# Altium integrated library Actel RTAX-S-SL.IntLib: 132 symbols (part 23 of 41)
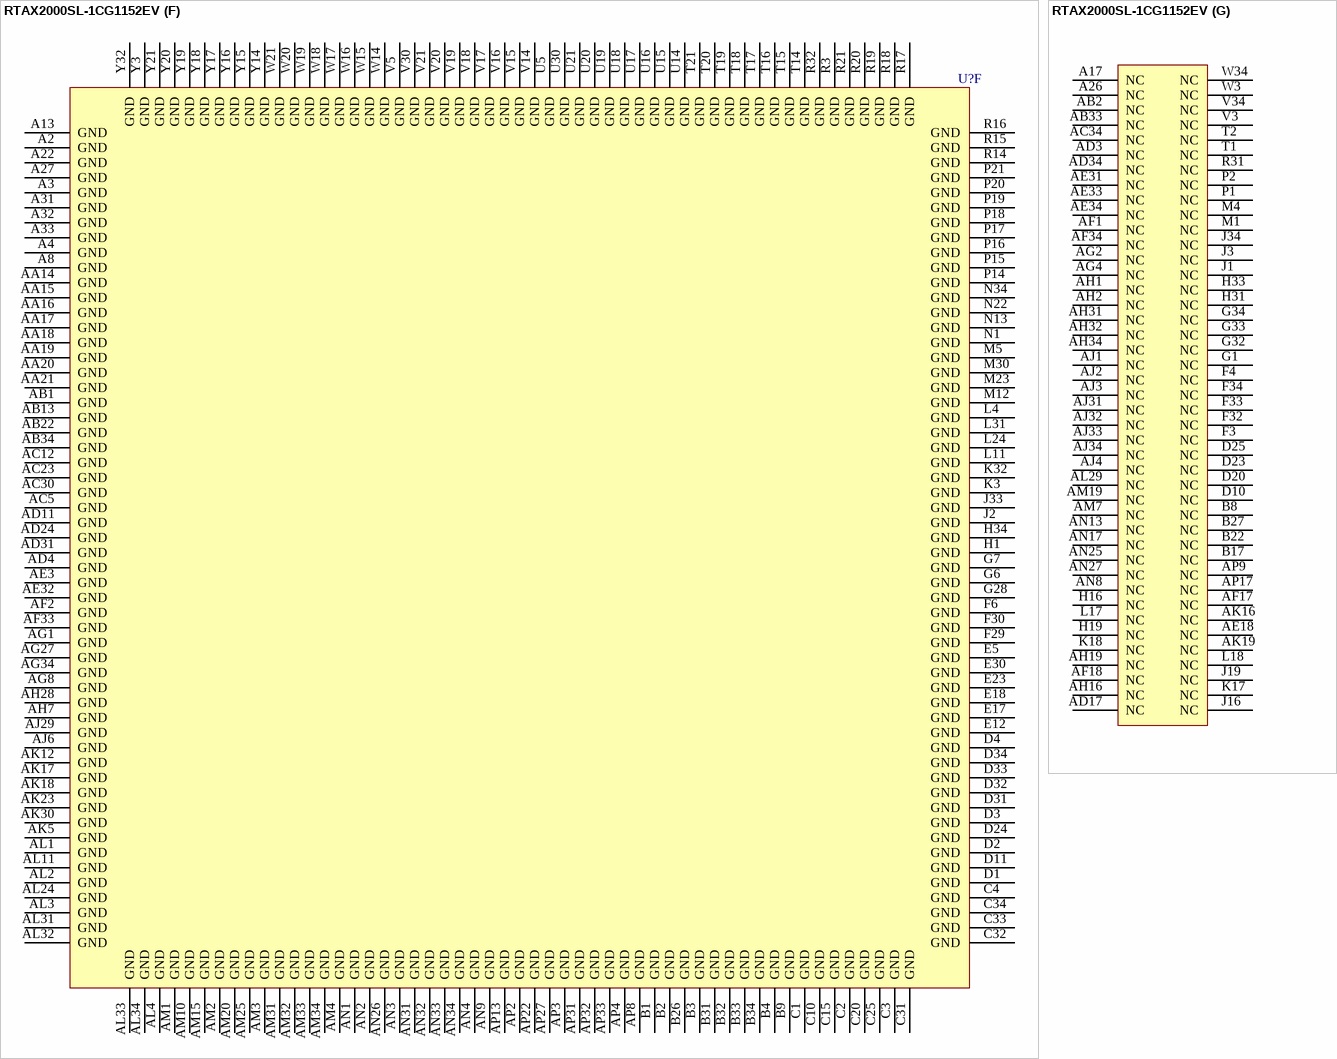
[diagram p401: symbol RTAX2000SL-1CG1152EV]

## RTAX2000SL-1CG1152EV
designator U?
RTAX-SL RadTolerant FPGA, 2 Million Equivalent System Gates, Low-Power, 1152-Pin CCGA, Speed Grade 1, Class V; Published: 11-Dec-2009; DatasheetVersion: v5.4, May-2009; PackageVersion: ver11.2, Nov-2009; PackageReference: CG1152; Publisher: Altium Limited; PackageDescription: 1152-Pin Ceramic Column Grid Array 1 mm Pitch; ComponentLink1Description: RTAX-S/SL RadTolerant Datasheet; ComponentLink1URL: http://www.actel.com/documents/RTAXS_DS.pdf; ComponentLink2Description: Package Mechanical Drawings; ComponentLink2URL: http://www.actel.com/documents/PckgMechDrwngs.pdf; ComponentLink3Description: RTAX-S/SL RadTolerant Documents; ComponentLink3URL: http://www.actel.com/products/milaero/rtaxs/docs.aspx; ComponentLink4Description: Actel.com Home; ComponentLink4URL: http://www.actel.com/
footprint CG1152 (CGA, 1152-Leads, Body 35x35 mm, Pitch 1mm)
part A pins: A6 IO03NB0F0 (io), A7 IO14NB0F1 (io), A9 IO20PB0F1 (io), A10 IO20NB0F1 (io), A11 IO24PB0F2 (io), A12 IO24NB0F2 (io), A14 IO32NB0F2 (io), A15 IO35NB0F3 (io), A16 IO36PB0F3 (io), A18 IO46NB1F4 (io), A19 IO50NB1F4 (io), A20 IO52PB1F4 (io), A21 IO54PB1F5 (io), A23 IO60PB1F5 (io), A24 IO64PB1F6 (io), A25 IO66PB1F6 (io), A28 IO72PB1F6 (io), A29 IO77PB1F7 (io), B6 IO03PB0F0 (io), B7 IO14PB0F1 (io), B10 IO22PB0F2 (io), B11 IO22NB0F2 (io), B12 IO29PB0F2 (io), B13 IO29NB0F2 (io), B14 IO32PB0F2 (io), B15 IO35PB0F3 (io), B16 IO36NB0F3 (io), B18 IO46PB1F4 (io), B19 IO50PB1F4 (io), B20 IO52NB1F4 (io), B21 IO54NB1F5 (io), B23 IO60NB1F5 (io), B24 IO64NB1F6 (io), B25 IO66NB1F6 (io), B28 IO72NB1F6 (io), B29 IO77NB1F7 (io), C6 IO00PB0F0 (io), C7 IO04NB0F0 (io), C8 IO10NB0F0 (io), C9 IO16NB0F1 (io), C11 IO23PB0F2 (io), C12 IO23NB0F2 (io), C13 IO30PB0F2 (io), C14 IO30NB0F2 (io), C16 IO38PB0F3 (io), C17 IO40PB0F3 (io), C18 IO45NB1F4 (io), C19 IO48NB1F4 (io), C21 IO56PB1F5 (io), C22 IO59PB1F5 (io), C23 IO62PB1F5 (io), C24 IO62NB1F5 (io), C26 IO69PB1F6 (io), C27 IO69NB1F6 (io), C28 IO78PB1F7 (io), C29 IO82PB1F7 (io), D6 IO00NB0F0 (io), D7 IO04PB0F0 (io), D8 IO10PB0F0 (io), D9 IO16PB0F1 (io), D12 IO26PB0F2 (io), D13 IO26NB0F2 (io), D14 IO34PB0F3 (io), D15 IO34NB0F3 (io), D16 IO38NB0F3 (io), D17 IO40NB0F3 (io), D18 IO45PB1F4 (io), D19 IO48PB1F4 (io), D21 IO56NB1F5 (io), D22 IO59NB1F5 (io), D26 IO76PB1F7 (io), D27 IO76NB1F7 (io), D28 IO78NB1F7 (io), D29 IO82NB1F7 (io), E8 IO08PB0F0 (io), E9 IO08NB0F0 (io), E10 IO18PB0F1 (io), E11 IO18NB0F1 (io), E13 IO28PB0F2 (io), E14 IO28NB0F2 (io), E16 IO41NB0F3/HCLKAN (io), E19 IO44NB1F4/HCLKDN (io), E20 IO53PB1F4 (io), E21 IO58PB1F5 (io), E22 IO58NB1F5 (io), E24 IO68PB1F6 (io), E25 IO73PB1F6 (io), E26 IO73NB1F6 (io), E27 IO80PB1F7 (io), E28 IO84PB1F7 (io), F8 IO02NB0F0 (io), F9 IO06NB0F0 (io), F10 IO07NB0F0 (io), F11 IO17PB0F1 (io), F12 IO17NB0F1 (io), F13 IO19NB0F1 (io), F14 IO27NB0F2 (io), F16 IO41PB0F3/HCLKAP (io), F17 IO42PB0F3/HCLKBP (io), F19 IO44PB1F4/HCLKDP (io), F20 IO53NB1F4 (io), F22 IO63PB1F5 (io), F23 IO63NB1F5 (io), F24 IO68NB1F6 (io), F25 IO74PB1F6 (io), F26 IO74NB1F6 (io), F27 IO80NB1F7 (io), F28 IO84NB1F7 (io), G8 IO02PB0F0 (io), G9 IO06PB0F0 (io), G10 IO07PB0F0 (io), G11 IO12NB0F1 (io), G12 IO13NB0F1 (io), G13 IO19PB0F1 (io), G14 IO27PB0F2 (io), G15 IO37PB0F3 (io), G16 IO37NB0F3 (io), G17 IO42NB0F3/HCLKBN (io), G18 IO43PB1F4/HCLKCP (io), G19 IO43NB1F4/HCLKCN (io), G21 IO57PB1F5 (io), G22 IO57NB1F5 (io), G23 IO71PB1F6 (io), G24 IO70PB1F6 (io), G25 IO79PB1F7 (io), G26 IO83PB1F7 (io), G27 IO85PB1F7 (io), H9 IO01PB0F0 (io), H10 IO01NB0F0 (io), H11 IO12PB0F1 (io), H12 IO13PB0F1 (io), H13 IO15NB0F1 (io), H14 IO25NB0F2 (io), H15 IO31NB0F2 (io), H20 IO51NB1F4 (io), H21 IO61PB1F5 (io), H22 IO61NB1F5 (io), H23 IO71NB1F6 (io), H24 IO70NB1F6 (io), H25 IO79NB1F7 (io), H26 IO83NB1F7 (io), H27 IO85NB1F7 (io), J10 IO05PB0F0 (io), J11 IO09NB0F0 (io), J12 IO11PB0F0 (io), J13 IO15PB0F1 (io), J14 IO25PB0F2 (io), J15 IO31PB0F2 (io), J20 IO51PB1F4 (io), J21 IO55PB1F5 (io), J22 IO65NB1F6 (io), J23 IO67PB1F6 (io), J24 IO81PB1F7 (io), J25 IO81NB1F7 (io), K10 IO05NB0F0 (io), K11 IO09PB0F0 (io), K12 IO11NB0F0 (io), K13 IO21PB0F1 (io), K14 IO21NB0F1 (io), K15 IO33NB0F2 (io), K16 IO39NB0F3 (io), K19 IO47NB1F4 (io), K20 IO49NB1F4 (io), K21 IO55NB1F5 (io), K22 IO65PB1F6 (io), K23 IO67NB1F6 (io), K24 IO75PB1F6 (io), K25 IO75NB1F6 (io), L15 IO33PB0F2 (io), L16 IO39PB0F3 (io), L19 IO47PB1F4 (io), L20 IO49PB1F4 (io)
part B pins: AA25 IO153PB3F14 (io), AA26 IO145NB3F13 (io), AA27 IO149PB3F13 (io), AA28 IO143NB3F13 (io), AA29 IO146NB3F13 (io), AA30 IO146PB3F13 (io), AA31 IO142NB3F13 (io), AA32 IO148PB3F13 (io), AA33 IO140NB3F13 (io), AA34 IO144NB3F13 (io), AB25 IO153NB3F14 (io), AB26 IO157PB3F14 (io), AB27 IO149NB3F13 (io), AB28 IO152PB3F14 (io), AB29 IO147PB3F13 (io), AB30 IO147NB3F13 (io), AB31 IO150PB3F14 (io), AB32 IO148NB3F13 (io), AC25 IO170PB3F15 (io), AC26 IO157NB3F14 (io), AC27 IO159PB3F14 (io), AC28 IO152NB3F14 (io), AC29 IO155PB3F14 (io), AC31 IO150NB3F14 (io), AC32 IO154PB3F14 (io), AC33 IO151PB3F14 (io), AD25 IO170NB3F15 (io), AD26 IO165PB3F15 (io), AD27 IO159NB3F14 (io), AD28 IO163PB3F15 (io), AD29 IO155NB3F14 (io), AD30 IO156PB3F14 (io), AD32 IO154NB3F14 (io), AD33 IO151NB3F14 (io), AE26 IO165NB3F15 (io), AE27 IO168PB3F15 (io), AE28 IO163NB3F15 (io), AE29 IO162PB3F15 (io), AE30 IO156NB3F14 (io), AF27 IO168NB3F15 (io), AF28 IO167PB3F15 (io), AF29 IO162NB3F15 (io), AF30 IO164PB3F15 (io), AF31 IO161PB3F15 (io), AF32 IO160PB3F14 (io), AG28 IO167NB3F15 (io), AG29 IO169PB3F15 (io), AG30 IO164NB3F15 (io), AG31 IO161NB3F15 (io), AG32 IO160NB3F14 (io), AG33 IO158PB3F14 (io), AH29 IO169NB3F15 (io), AH30 IO166PB3F15 (io), AH33 IO158NB3F14 (io), AJ30 IO166NB3F15 (io), F31 IO89PB2F8 (io), G29 IO90PB2F8 (io), G31 IO89NB2F8 (io), H29 IO90NB2F8 (io), H30 IO92PB2F8 (io), H32 IO96PB2F9 (io), J27 IO86PB2F8 (io), J28 IO86NB2F8 (io), J29 IO94PB2F8 (io), J30 IO92NB2F8 (io), J31 IO95PB2F8 (io), J32 IO96NB2F9 (io), K26 IO88PB2F8 (io), K27 IO91PB2F8 (io), K28 IO91NB2F8 (io), K29 IO94NB2F8 (io), K30 IO98PB2F9 (io), K31 IO95NB2F8 (io), K33 IO102PB2F9 (io), K34 IO102NB2F9 (io), L25 IO87PB2F8 (io), L26 IO88NB2F8 (io), L27 IO93PB2F8 (io), L28 IO93NB2F8 (io), L29 IO100PB2F9 (io), L30 IO98NB2F9 (io), L32 IO101PB2F9 (io), L33 IO101NB2F9 (io), L34 IO104PB2F9 (io), M25 IO87NB2F8 (io), M26 IO97PB2F9 (io), M27 IO97NB2F9 (io), M28 IO103PB2F9 (io), M29 IO100NB2F9 (io), M31 IO106PB2F9 (io), M32 IO106NB2F9 (io), M33 IO108PB2F10 (io), M34 IO104NB2F9 (io), N25 IO99NB2F9 (io), N26 IO99PB2F9 (io), N27 IO105PB2F9 (io), N28 IO103NB2F9 (io), N29 IO109PB2F10 (io), N30 IO110PB2F10 (io), N31 IO112PB2F10 (io), N32 IO114PB2F10 (io), N33 IO108NB2F10 (io), P25 IO107NB2F10 (io), P26 IO107PB2F10 (io), P27 IO105NB2F9 (io), P28 IO113PB2F10 (io), P29 IO109NB2F10 (io), P30 IO110NB2F10 (io), P31 IO112NB2F10 (io), P32 IO114NB2F10 (io), P33 IO116PB2F10 (io), P34 IO116NB2F10 (io), R24 IO111NB2F10 (io), R25 IO111PB2F10 (io), R26 IO117PB2F10 (io), R27 IO117NB2F10 (io), R28 IO113NB2F10 (io), R29 IO115PB2F10 (io), R30 IO115NB2F10 (io), R33 IO118PB2F11 (io), R34 IO118NB2F11 (io), T24 IO119NB2F11 (io), T25 IO119PB2F11 (io), T26 IO121PB2F11 (io), T27 IO121NB2F11 (io), T28 IO123PB2F11 (io), T29 IO122PB2F11 (io), T30 IO122NB2F11 (io), T31 IO124NB2F11 (io), T32 IO124PB2F11 (io), T33 IO120NB2F11 (io), T34 IO120PB2F11 (io), U24 IO125NB2F11 (io), U25 IO125PB2F11 (io), U26 IO127NB2F11 (io), U27 IO127PB2F11 (io), U28 IO123NB2F11 (io), U29 IO129PB3F12 (io), U31 IO128NB2F11 (io), U32 IO128PB2F11 (io), U33 IO126NB2F11 (io), U34 IO126PB2F11 (io), V24 IO131NB3F12 (io), V25 IO131PB3F12 (io), V26 IO133PB3F12 (io), V28 IO132PB3F12 (io), V29 IO129NB3F12 (io), V31 IO130NB3F12 (io), V32 IO130PB3F12 (io), V33 IO134PB3F12 (io), W24 IO135PB3F12 (io), W25 IO135NB3F12 (io), W26 IO133NB3F12 (io), W27 IO139PB3F13 (io), W28 IO132NB3F12 (io), W29 IO138PB3F12 (io), W30 IO137PB3F12 (io), W31 IO136NB3F12 (io), W32 IO136PB3F12 (io), W33 IO134NB3F12 (io), Y24 IO141PB3F13 (io), Y25 IO141NB3F13 (io), Y26 IO145PB3F13 (io), Y27 IO139NB3F13 (io), Y28 IO143PB3F13 (io), Y29 IO138NB3F12 (io), Y30 IO137NB3F12 (io), Y31 IO142PB3F13 (io), Y33 IO140PB3F13 (io), Y34 IO144PB3F13 (io)
part C pins: AD15 IO222NB5F20 (io), AD16 IO216NB5F20 (io), AD19 IO210PB4F19 (io), AD20 IO202PB4F18 (io), AE10 IO250NB5F23 (io), AE11 IO250PB5F23 (io), AE12 IO240NB5F22 (io), AE13 IO234NB5F21 (io), AE14 IO230NB5F21 (io), AE15 IO226NB5F21 (io), AE16 IO222PB5F20 (io), AE17 IO216PB5F20 (io), AE19 IO210NB4F19 (io), AE20 IO202NB4F18 (io), AE21 IO198NB4F18 (io), AE22 IO198PB4F18 (io), AE23 IO188PB4F17 (io), AE24 IO182PB4F17 (io), AE25 IO178PB4F16 (io), AF10 IO246NB5F23 (io), AF11 IO246PB5F23 (io), AF12 IO240PB5F22 (io), AF13 IO234PB5F21 (io), AF14 IO230PB5F21 (io), AF15 IO226PB5F21 (io), AF16 IO218PB5F20 (io), AF19 IO208PB4F19 (io), AF20 IO206PB4F19 (io), AF21 IO196NB4F18 (io), AF22 IO196PB4F18 (io), AF23 IO188NB4F17 (io), AF24 IO182NB4F17 (io), AF25 IO178NB4F16 (io), AG9 IO254NB5F23 (io), AG10 IO254PB5F23 (io), AG11 IO242NB5F22 (io), AG12 IO242PB5F22 (io), AG13 IO232NB5F21 (io), AG14 IO227NB5F21 (io), AG15 IO227PB5F21 (io), AG16 IO218NB5F20 (io), AG19 IO208NB4F19 (io), AG20 IO206NB4F19 (io), AG21 IO192NB4F17 (io), AG22 IO192PB4F17 (io), AG23 IO184NB4F17 (io), AG24 IO184PB4F17 (io), AG25 IO176NB4F16 (io), AG26 IO176PB4F16 (io), AH8 IO252NB5F23 (io), AH9 IO252PB5F23 (io), AH10 IO245NB5F23 (io), AH11 IO238NB5F22 (io), AH12 IO238PB5F22 (io), AH13 IO232PB5F21 (io), AH22 IO190NB4F17 (io), AH23 IO190PB4F17 (io), AH24 IO183NB4F17 (io), AH25 IO183PB4F17 (io), AH26 IO172NB4F16 (io), AH27 IO172PB4F16 (io), AJ7 IO255NB5F23 (io), AJ8 IO251PB5F23 (io), AJ9 IO247NB5F23 (io), AJ10 IO245PB5F23 (io), AJ11 IO237NB5F22 (io), AJ12 IO237PB5F22 (io), AJ13 IO228NB5F21 (io), AJ14 IO228PB5F21 (io), AJ15 IO215NB5F20/CLKHN (io), AJ16 IO214NB5F20/CLKGN (io), AJ17 IO214PB5F20/CLKGP (io), AJ18 IO213NB4F19/CLKFN (io), AJ19 IO213PB4F19/CLKFP (io), AJ20 IO212NB4F19/CLKEN (io), AJ21 IO199NB4F18 (io), AJ22 IO199PB4F18 (io), AJ23 IO191NB4F17 (io), AJ24 IO191PB4F17 (io), AJ25 IO180NB4F16 (io), AJ26 IO180PB4F16 (io), AJ27 IO173NB4F16 (io), AJ28 IO173PB4F16 (io), AK7 IO255PB5F23 (io), AK8 IO251NB5F23 (io), AK9 IO247PB5F23 (io), AK10 IO239NB5F22 (io), AK11 IO239PB5F22 (io), AK13 IO225NB5F21 (io), AK14 IO225PB5F21 (io), AK15 IO215PB5F20/CLKHP (io), AK20 IO212PB4F19/CLKEP (io), AK21 IO200NB4F18 (io), AK22 IO200PB4F18 (io), AK24 IO187NB4F17 (io), AK25 IO187PB4F17 (io), AK26 IO177NB4F16 (io), AK27 IO177PB4F16 (io), AL6 IO256NB5F23 (io), AL7 IO249NB5F23 (io), AL8 IO249PB5F23 (io), AL9 IO243NB5F22 (io), AL10 IO243PB5F22 (io), AL12 IO233NB5F21 (io), AL13 IO233PB5F21 (io), AL14 IO223NB5F21 (io), AL15 IO223PB5F21 (io), AL16 IO219PB5F20 (io), AL17 IO217PB5F20 (io), AL18 IO211NB4F19 (io), AL19 IO207NB4F19 (io), AL20 IO207PB4F19 (io), AL21 IO201PB4F18 (io), AL22 IO197NB4F18 (io), AL23 IO195PB4F18 (io), AL25 IO185NB4F17 (io), AL26 IO185PB4F17 (io), AL27 IO174NB4F16 (io), AL28 IO174PB4F16 (io), AM6 IO256PB5F23 (io), AM8 IO244NB5F22 (io), AM9 IO244PB5F22 (io), AM11 IO236NB5F22 (io), AM12 IO236PB5F22 (io), AM13 IO229NB5F21 (io), AM14 IO229PB5F21 (io), AM16 IO219NB5F20 (io), AM17 IO217NB5F20 (io), AM18 IO211PB4F19 (io), AM21 IO201NB4F18 (io), AM22 IO197PB4F18 (io), AM23 IO195NB4F18 (io), AM24 IO189PB4F17 (io), AM26 IO181NB4F17 (io), AM27 IO181PB4F17 (io), AM28 IO175NB4F16 (io), AM29 IO175PB4F16 (io), AN6 IO253NB5F23 (io), AN7 IO248NB5F23 (io), AN10 IO241NB5F22 (io), AN11 IO235NB5F22 (io), AN12 IO231NB5F21 (io), AN14 IO224NB5F21 (io), AN15 IO221NB5F20 (io), AN16 IO220PB5F20 (io), AN18 IO209NB4F19 (io), AN19 IO205NB4F19 (io), AN20 IO204PB4F19 (io), AN21 IO203NB4F19 (io), AN22 IO194NB4F18 (io), AN23 IO194PB4F18 (io), AN24 IO189NB4F17 (io), AN28 IO179PB4F16 (io), AN29 IO171PB4F16 (io), AP6 IO253PB5F23 (io), AP7 IO248PB5F23 (io), AP10 IO241PB5F22 (io), AP11 IO235PB5F22 (io), AP12 IO231PB5F21 (io), AP14 IO224PB5F21 (io), AP15 IO221PB5F20 (io), AP16 IO220NB5F20 (io), AP18 IO209PB4F19 (io), AP19 IO205PB4F19 (io), AP20 IO204NB4F19 (io), AP21 IO203PB4F19 (io), AP23 IO193NB4F18 (io), AP24 IO193PB4F18 (io), AP25 IO186NB4F17 (io), AP26 IO186PB4F17 (io), AP28 IO179NB4F16 (io), AP29 IO171NB4F16 (io)
part D pins: AA1 IO289NB6F27 (io), AA2 IO289PB6F27 (io), AA3 IO287NB6F26 (io), AA4 IO287PB6F26 (io), AA5 IO285NB6F26 (io), AA6 IO285PB6F26 (io), AA7 IO282PB6F26 (io), AA8 IO278NB6F26 (io), AA9 IO278PB6F26 (io), AA10 IO274NB6F25 (io), AB3 IO281NB6F26 (io), AB4 IO281PB6F26 (io), AB5 IO279NB6F26 (io), AB6 IO279PB6F26 (io), AB7 IO275NB6F25 (io), AB8 IO272NB6F25 (io), AB9 IO270NB6F25 (io), AB10 IO274PB6F25 (io), AC1 IO283PB6F26 (io), AC2 IO283NB6F26 (io), AC3 IO277PB6F25 (io), AC4 IO277NB6F25 (io), AC6 IO271NB6F25 (io), AC7 IO275PB6F25 (io), AC8 IO272PB6F25 (io), AC9 IO270PB6F25 (io), AC10 IO266NB6F24 (io), AD1 IO276NB6F25 (io), AD2 IO276PB6F25 (io), AD5 IO268NB6F25 (io), AD6 IO271PB6F25 (io), AD7 IO267NB6F25 (io), AD8 IO264NB6F24 (io), AD9 IO258NB6F24 (io), AD10 IO266PB6F24 (io), AE1 IO273NB6F25 (io), AE2 IO273PB6F25 (io), AE4 IO269NB6F25 (io), AE5 IO268PB6F25 (io), AE6 IO262NB6F24 (io), AE7 IO267PB6F25 (io), AE8 IO264PB6F24 (io), AE9 IO258PB6F24 (io), AF3 IO265NB6F24 (io), AF4 IO269PB6F25 (io), AF5 IO263NB6F24 (io), AF6 IO262PB6F24 (io), AF7 IO259NB6F24 (io), AG3 IO265PB6F24 (io), AG5 IO263PB6F24 (io), AG6 IO257NB6F24 (io), AG7 IO259PB6F24 (io), AH3 IO260NB6F24 (io), AH4 IO260PB6F24 (io), AH5 IO261NB6F24 (io), AH6 IO257PB6F24 (io), AJ5 IO261PB6F24 (io), F1 IO333PB7F31 (io), F2 IO333NB7F31 (io), G2 IO326NB7F30 (io), G3 IO337PB7F31 (io), G4 IO337NB7F31 (io), H2 IO326PB7F30 (io), H3 IO335PB7F31 (io), H4 IO335NB7F31 (io), H5 IO339PB7F31 (io), H6 IO339NB7F31 (io), H7 IO340NB7F31 (io), J4 IO329NB7F30 (io), J5 IO330NB7F30 (io), J6 IO334NB7F31 (io), J7 IO340PB7F31 (io), J8 IO341NB7F31 (io), K1 IO325PB7F30 (io), K2 IO325NB7F30 (io), K4 IO329PB7F30 (io), K5 IO330PB7F30 (io), K6 IO334PB7F31 (io), K7 IO336NB7F31 (io), K8 IO341PB7F31 (io), K9 IO338NB7F31 (io), L1 IO319PB7F29 (io), L2 IO319NB7F29 (io), L3 IO323NB7F30 (io), L5 IO327PB7F30 (io), L6 IO327NB7F30 (io), L7 IO336PB7F31 (io), L8 IO332NB7F31 (io), L9 IO338PB7F31 (io), M2 IO314NB7F29 (io), M3 IO323PB7F30 (io), M6 IO321NB7F30 (io), M7 IO324NB7F30 (io), M8 IO332PB7F31 (io), M9 IO331PB7F30 (io), M10 IO331NB7F30 (io), N2 IO314PB7F29 (io), N3 IO311NB7F29 (io), N4 IO315NB7F29 (io), N5 IO317NB7F29 (io), N6 IO321PB7F30 (io), N7 IO324PB7F30 (io), N8 IO320NB7F29 (io), N9 IO328PB7F30 (io), N10 IO328NB7F30 (io), P3 IO311PB7F29 (io), P4 IO315PB7F29 (io), P5 IO317PB7F29 (io), P6 IO313NB7F29 (io), P7 IO312NB7F29 (io), P8 IO320PB7F29 (io), P9 IO322PB7F30 (io), P10 IO322NB7F30 (io), R1 IO305PB7F28 (io), R2 IO305NB7F28 (io), R4 IO306NB7F28 (io), R5 IO307NB7F28 (io), R6 IO313PB7F29 (io), R7 IO312PB7F29 (io), R8 IO316PB7F29 (io), R9 IO316NB7F29 (io), R10 IO318NB7F29 (io), R11 IO318PB7F29 (io), T3 IO303NB7F28 (io), T4 IO306PB7F28 (io), T5 IO307PB7F28 (io), T6 IO309NB7F28 (io), T7 IO309PB7F28 (io), T8 IO310PB7F29 (io), T9 IO310NB7F29 (io), T10 IO308PB7F28 (io), T11 IO308NB7F28 (io), U1 IO301PB7F28 (io), U2 IO301NB7F28 (io), U3 IO303PB7F28 (io), U4 IO299NB6F27 (io), U6 IO302NB7F28 (io), U7 IO302PB7F28 (io), U8 IO304PB7F28 (io), U9 IO304NB7F28 (io), U10 IO300NB7F28 (io), U11 IO300PB7F28 (io), V1 IO297NB6F27 (io), V2 IO297PB6F27 (io), V4 IO299PB6F27 (io), V7 IO292NB6F27 (io), V8 IO298PB6F27 (io), V9 IO298NB6F27 (io), V10 IO294NB6F27 (io), V11 IO294PB6F27 (io), W1 IO296NB6F27 (io), W2 IO296PB6F27 (io), W4 IO293NB6F27 (io), W5 IO291NB6F27 (io), W6 IO290NB6F27 (io), W7 IO292PB6F27 (io), W8 IO288PB6F26 (io), W9 IO288NB6F26 (io), W10 IO286NB6F26 (io), W11 IO286PB6F26 (io), Y1 IO295NB6F27 (io), Y2 IO295PB6F27 (io), Y4 IO293PB6F27 (io), Y5 IO291PB6F27 (io), Y6 IO290PB6F27 (io), Y7 IO282NB6F26 (io), Y8 IO284PB6F26 (io), Y9 IO284NB6F26 (io), Y10 IO280NB6F26 (io), Y11 IO280PB6F26 (io)
part E pins: A5 VCCIB0 (power), A30 VCCIB1 (power), AA11 VCCIB6 (power), AA12 VCCIB6 (power), AA13 VCCA (power), AA22 VCCA (power), AA23 VCCIB3 (power), AA24 VCCIB3 (power), AB11 VCCIB6 (power), AB12 VCCIB6 (power), AB14 VCCA (power), AB15 VCCA (power), AB16 VCCA (power), AB17 VCCA (power), AB18 VCCA (power), AB19 VCCA (power), AB20 VCCA (power), AB21 VCCA (power), AB23 VCCIB3 (power), AB24 VCCIB3 (power), AC11 VCCIB6 (power), AC13 VCCIB5 (power), AC14 VCCIB5 (power), AC15 VCCIB5 (power), AC16 VCCIB5 (power), AC17 VCCIB5 (power), AC18 VCCIB4 (power), AC19 VCCIB4 (power), AC20 VCCIB4 (power), AC21 VCCIB4 (power), AC22 VCCIB4 (power), AC24 VCCIB3 (power), AD12 VCCIB5 (power), AD13 VCCIB5 (power), AD14 VCCIB5 (power), AD18 PRC (out), AD21 VCCIB4 (power), AD22 VCCIB4 (power), AD23 VCCIB4 (power), AF8 VCCA (power), AF9 VCCDA (power), AF26 VCCDA (power), AG17 VCCDA (power), AG18 VCCDA (power), AH14 VCCDA (power), AH15 VCCDA (power), AH17 VCCDA (power), AH18 PRD (out), AH20 VCCDA (power), AH21 VCCDA (power), AK1 VCCIB6 (power), AK2 VCCIB6 (power), AK3 VCCIB6 (power), AK4 VCCIB6 (power), AK6 VCCDA (power), AK28 VCCA (power), AK29 VCCDA (power), AK31 VCCIB3 (power), AK32 VCCIB3 (power), AK33 VCCIB3 (power), AK34 VCCIB3 (power), AL5 VCCIB5 (power), AL30 VCCIB4 (power), AM5 VCCIB5 (power), AM30 VCCIB4 (power), AN5 VCCIB5 (power), AN30 VCCIB4 (power), AP5 VCCIB5 (power), AP30 VCCIB4 (power), B5 VCCIB0 (power), B30 VCCIB1 (power), C5 VCCIB0 (power), C30 VCCIB1 (power), D5 VCCIB0 (power), D30 VCCIB1 (power), E1 VCCIB7 (power), E2 VCCIB7 (power), E3 VCCIB7 (power), E4 VCCIB7 (power), E6 TRST (in), E7 VCCDA (power), E15 VCCDA (power), E29 VCCDA (power), E31 VCCIB2 (power), E32 VCCIB2 (power), E33 VCCIB2 (power), E34 VCCIB2 (power), F5 VCCDA (power), F7 TDI (in), F15 VCCDA (power), F18 PRB (out), F21 VCCDA (power), G5 VCCA (power), G20 VCCDA (power), G30 VCCA (power), H8 TMS (in), H17 VCCDA (power), H18 VCCDA (power), H28 VCCDA (power), J9 TCK (in), J17 PRA (out), J18 VCCDA (power), J26 VPUMP (power), L10 TDO (hiz), L12 VCCIB0 (power), L13 VCCIB0 (power), L14 VCCIB0 (power), L21 VCCIB1 (power), L22 VCCIB1 (power), L23 VCCIB1 (power), M11 VCCIB7 (power), M13 VCCIB0 (power), M14 VCCIB0 (power), M15 VCCIB0 (power), M16 VCCIB0 (power), M17 VCCIB0 (power), M18 VCCIB1 (power), M19 VCCIB1 (power), M20 VCCIB1 (power), M21 VCCIB1 (power), M22 VCCIB1 (power), M24 VCCIB2 (power), N11 VCCIB7 (power), N12 VCCIB7 (power), N14 VCCA (power), N15 VCCA (power), N16 VCCA (power), N17 VCCA (power), N18 VCCA (power), N19 VCCA (power), N20 VCCA (power), N21 VCCA (power), N23 VCCIB2 (power), N24 VCCIB2 (power), P11 VCCIB7 (power), P12 VCCIB7 (power), P13 VCCA (power), P22 VCCA (power), P23 VCCIB2 (power), P24 VCCIB2 (power), R12 VCCIB7 (power), R13 VCCA (power), R22 VCCA (power), R23 VCCIB2 (power), T12 VCCIB7 (power), T13 VCCA (power), T22 VCCA (power), T23 VCCIB2 (power), U12 VCCIB7 (power), U13 VCCA (power), U22 VCCA (power), U23 VCCIB2 (power), V6 VCCDA (power), V12 VCCIB6 (power), V13 VCCA (power), V22 VCCA (power), V23 VCCIB3 (power), V27 VCCDA (power), W12 VCCIB6 (power), W13 VCCA (power), W22 VCCA (power), W23 VCCIB3 (power), Y12 VCCIB6 (power), Y13 VCCA (power), Y22 VCCA (power), Y23 VCCIB3 (power)
part F pins: A2 GND (power), A3 GND (power), A4 GND (power), A8 GND (power), A13 GND (power), A22 GND (power), A27 GND (power), A31 GND (power), A32 GND (power), A33 GND (power), AA14 GND (power), AA15 GND (power), AA16 GND (power), AA17 GND (power), AA18 GND (power), AA19 GND (power), AA20 GND (power), AA21 GND (power), AB1 GND (power), AB13 GND (power), AB22 GND (power), AB34 GND (power), AC5 GND (power), AC12 GND (power), AC23 GND (power), AC30 GND (power), AD4 GND (power), AD11 GND (power), AD24 GND (power), AD31 GND (power), AE3 GND (power), AE32 GND (power), AF2 GND (power), AF33 GND (power), AG1 GND (power), AG8 GND (power), AG27 GND (power), AG34 GND (power), AH7 GND (power), AH28 GND (power), AJ6 GND (power), AJ29 GND (power), AK5 GND (power), AK12 GND (power), AK17 GND (power), AK18 GND (power), AK23 GND (power), AK30 GND (power), AL1 GND (power), AL2 GND (power), AL3 GND (power), AL4 GND (power), AL11 GND (power), AL24 GND (power), AL31 GND (power), AL32 GND (power), AL33 GND (power), AL34 GND (power), AM1 GND (power), AM2 GND (power), AM3 GND (power), AM4 GND (power), AM10 GND (power), AM15 GND (power), AM20 GND (power), AM25 GND (power), AM31 GND (power), AM32 GND (power), AM33 GND (power), AM34 GND (power), AN1 GND (power), AN2 GND (power), AN3 GND (power), AN4 GND (power), AN9 GND (power), AN26 GND (power), AN31 GND (power), AN32 GND (power), AN33 GND (power), AN34 GND (power), AP2 GND (power), AP3 GND (power), AP4 GND (power), AP8 GND (power), AP13 GND (power), AP22 GND (power), AP27 GND (power), AP31 GND (power), AP32 GND (power), AP33 GND (power), B1 GND (power), B2 GND (power), B3 GND (power), B4 GND (power), B9 GND (power), B26 GND (power), B31 GND (power), B32 GND (power), B33 GND (power), B34 GND (power), C1 GND (power), C2 GND (power), C3 GND (power), C4 GND (power), C10 GND (power), C15 GND (power), C20 GND (power), C25 GND (power), C31 GND (power), C32 GND (power), C33 GND (power), C34 GND (power), D1 GND (power), D2 GND (power), D3 GND (power), D4 GND (power), D11 GND (power), D24 GND (power), D31 GND (power), D32 GND (power), D33 GND (power), D34 GND (power), E5 GND (power), E12 GND (power), E17 GND (power), E18 GND (power), E23 GND (power), E30 GND (power), F6 GND (power), F29 GND (power), F30 GND (power), G6 GND (power), G7 GND (power), G28 GND (power), H1 GND (power), H34 GND (power), J2 GND (power), J33 GND (power), K3 GND (power), K32 GND (power), L4 GND (power), L11 GND (power), L24 GND (power), L31 GND (power), M5 GND (power), M12 GND (power), M23 GND (power), M30 GND (power), N1 GND (power), N13 GND (power), N22 GND (power), N34 GND (power), P14 GND (power), P15 GND (power), P16 GND (power), P17 GND (power), P18 GND (power), P19 GND (power), P20 GND (power), P21 GND (power), R3 GND (power), R14 GND (power), R15 GND (power), R16 GND (power), R17 GND (power), R18 GND (power), R19 GND (power), R20 GND (power), R21 GND (power), R32 GND (power), T14 GND (power), T15 GND (power), T16 GND (power), T17 GND (power), T18 GND (power), T19 GND (power), T20 GND (power), T21 GND (power), U5 GND (power), U14 GND (power), U15 GND (power), U16 GND (power), U17 GND (power), U18 GND (power), U19 GND (power), U20 GND (power), U21 GND (power), U30 GND (power), V5 GND (power), V14 GND (power), V15 GND (power), V16 GND (power), V17 GND (power), V18 GND (power), V19 GND (power), V20 GND (power), V21 GND (power), V30 GND (power), W14 GND (power), W15 GND (power), W16 GND (power), W17 GND (power), W18 GND (power), W19 GND (power), W20 GND (power), W21 GND (power), Y3 GND (power), Y14 GND (power), Y15 GND (power), Y16 GND (power), Y17 GND (power), Y18 GND (power), Y19 GND (power), Y20 GND (power), Y21 GND (power), Y32 GND (power)
part G pins: A17 NC, A26 NC, AB2 NC, AB33 NC, AC34 NC, AD3 NC, AD17 NC (power), AD34 NC, AE18 NC (power), AE31 NC, AE33 NC, AE34 NC, AF1 NC, AF17 NC (power), AF18 NC (power), AF34 NC, AG2 NC, AG4 NC, AH1 NC, AH2 NC, AH16 NC (power), AH19 NC (power), AH31 NC, AH32 NC, AH34 NC, AJ1 NC, AJ2 NC, AJ3 NC, AJ4 NC, AJ31 NC, AJ32 NC, AJ33 NC, AJ34 NC, AK16 NC (power), AK19 NC (power), AL29 NC, AM7 NC, AM19 NC, AN8 NC, AN13 NC, AN17 NC, AN25 NC, AN27 NC, AP9 NC, AP17 NC, B8 NC, B17 NC, B22 NC, B27 NC, D10 NC, D20 NC, D23 NC, D25 NC, F3 NC, F4 NC, F32 NC, F33 NC, F34 NC, G1 NC, G32 NC, G33 NC, G34 NC, H16 NC (power), H19 NC (power), H31 NC, H33 NC, J1 NC, J3 NC, J16 NC (power), J19 NC (power), J34 NC, K17 NC (power), K18 NC (power), L17 NC (power), L18 NC (power), M1 NC, M4 NC, P1 NC, P2 NC, R31 NC, T1 NC, T2 NC, V3 NC, V34 NC, W3 NC, W34 NC
part A text: Bank 1; Bank 0
part B text: Bank 3; Bank 2
part C text: Bank 5; Bank 4
part D text: Bank 7; Bank 6

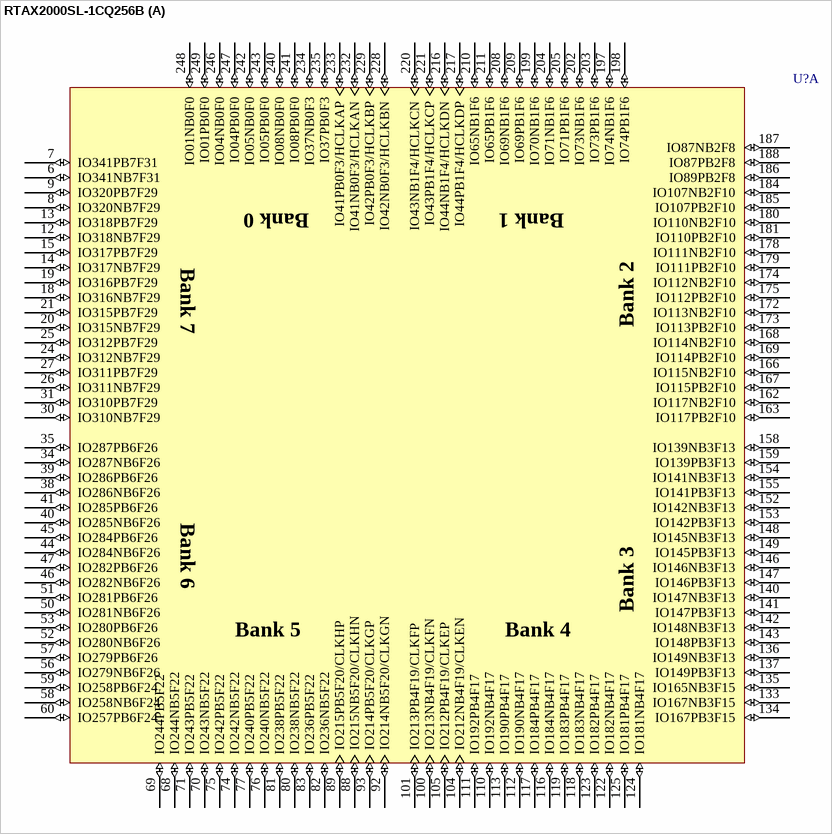
[diagram p220: symbol RTAX2000SL-1CQ256B]

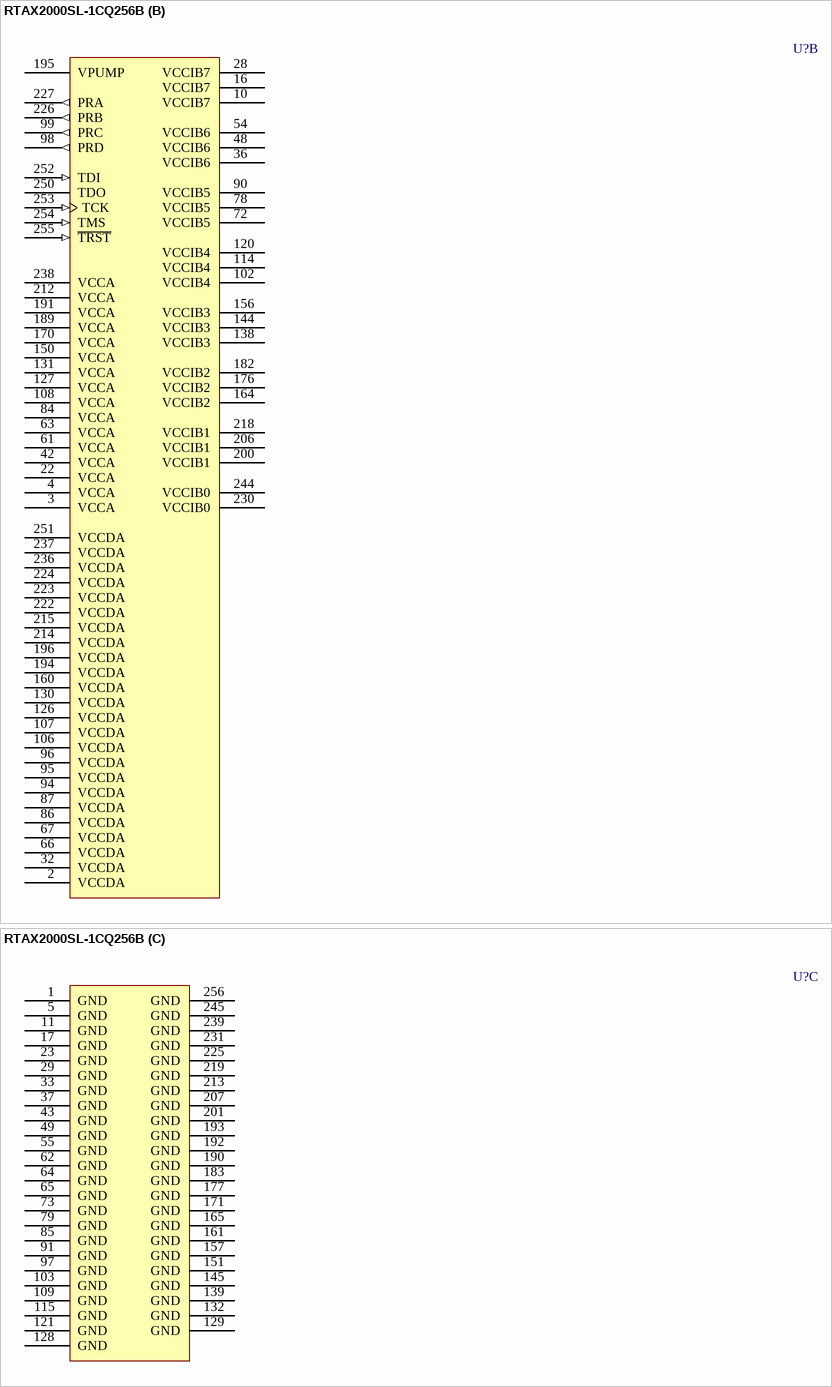
[diagram p221: symbol RTAX2000SL-1CQ256B]

## RTAX2000SL-1CQ256B
designator U?
RTAX-SL RadTolerant FPGA, 2 Million Equivalent System Gates, Low-Power, 256-Pin CQFP, Speed Grade 1, MIL-STD-883 Class B; Published: 11-Dec-2009; DatasheetVersion: v5.4, May-2009; PackageVersion: ver11.2, Nov-2009; PackageReference: CQ256; Publisher: Altium Limited; PackageDescription: 256-Pin Ceramic Quad Flat Pack (CQFP); Code_JEDEC: MO-134-AB; ComponentLink1Description: RTAX-S/SL RadTolerant Datasheet; ComponentLink1URL: http://www.actel.com/documents/RTAXS_DS.pdf; ComponentLink2Description: Package Mechanical Drawings; ComponentLink2URL: http://www.actel.com/documents/PckgMechDrwngs.pdf; ComponentLink3Description: RTAX-S/SL RadTolerant Documents; ComponentLink3URL: http://www.actel.com/products/milaero/rtaxs/docs.aspx; ComponentLink4Description: Actel.com Home; ComponentLink4URL: http://www.actel.com/
footprint CQ256_N (CQFP, 256-Leads, Body 36x36mm; Pitch 0.5mm, Gullwing Leadform, IPC Medium Density)
footprint CQ256_L (CQFP, 256-Leads, Body 36x36mm; Pitch 0.5mm, Gullwing Leadform, IPC High Density)
footprint CQ256_M (CQFP, 256-Leads, Body 36x36mm; Pitch 0.5mm, Gullwing Leadform, IPC Low Density)
part A pins: 6 IO341NB7F31 (io), 7 IO341PB7F31 (io), 8 IO320NB7F29 (io), 9 IO320PB7F29 (io), 12 IO318NB7F29 (io), 13 IO318PB7F29 (io), 14 IO317NB7F29 (io), 15 IO317PB7F29 (io), 18 IO316NB7F29 (io), 19 IO316PB7F29 (io), 20 IO315NB7F29 (io), 21 IO315PB7F29 (io), 24 IO312NB7F29 (io), 25 IO312PB7F29 (io), 26 IO311NB7F29 (io), 27 IO311PB7F29 (io), 30 IO310NB7F29 (io), 31 IO310PB7F29 (io), 34 IO287NB6F26 (io), 35 IO287PB6F26 (io), 38 IO286NB6F26 (io), 39 IO286PB6F26 (io), 40 IO285NB6F26 (io), 41 IO285PB6F26 (io), 44 IO284NB6F26 (io), 45 IO284PB6F26 (io), 46 IO282NB6F26 (io), 47 IO282PB6F26 (io), 50 IO281NB6F26 (io), 51 IO281PB6F26 (io), 52 IO280NB6F26 (io), 53 IO280PB6F26 (io), 56 IO279NB6F26 (io), 57 IO279PB6F26 (io), 58 IO258NB6F24 (io), 59 IO258PB6F24 (io), 60 IO257PB6F24 (io), 68 IO244NB5F22 (io), 69 IO244PB5F22 (io), 70 IO243NB5F22 (io), 71 IO243PB5F22 (io), 74 IO242NB5F22 (io), 75 IO242PB5F22 (io), 76 IO240NB5F22 (io), 77 IO240PB5F22 (io), 80 IO238NB5F22 (io), 81 IO238PB5F22 (io), 82 IO236NB5F22 (io), 83 IO236PB5F22 (io), 88 IO215NB5F20/CLKHN (io), 89 IO215PB5F20/CLKHP (io), 92 IO214NB5F20/CLKGN (io), 93 IO214PB5F20/CLKGP (io), 100 IO213NB4F19/CLKFN (io), 101 IO213PB4F19/CLKFP (io), 104 IO212NB4F19/CLKEN (io), 105 IO212PB4F19/CLKEP (io), 110 IO192NB4F17 (io), 111 IO192PB4F17 (io), 112 IO190NB4F17 (io), 113 IO190PB4F17 (io), 116 IO184NB4F17 (io), 117 IO184PB4F17 (io), 118 IO183NB4F17 (io), 119 IO183PB4F17 (io), 122 IO182NB4F17 (io), 123 IO182PB4F17 (io), 124 IO181NB4F17 (io), 125 IO181PB4F17 (io), 133 IO167NB3F15 (io), 134 IO167PB3F15 (io), 135 IO165NB3F15 (io), 136 IO149NB3F13 (io), 137 IO149PB3F13 (io), 140 IO147NB3F13 (io), 141 IO147PB3F13 (io), 142 IO148NB3F13 (io), 143 IO148PB3F13 (io), 146 IO146NB3F13 (io), 147 IO146PB3F13 (io), 148 IO145NB3F13 (io), 149 IO145PB3F13 (io), 152 IO142NB3F13 (io), 153 IO142PB3F13 (io), 154 IO141NB3F13 (io), 155 IO141PB3F13 (io), 158 IO139NB3F13 (io), 159 IO139PB3F13 (io), 162 IO117NB2F10 (io), 163 IO117PB2F10 (io), 166 IO115NB2F10 (io), 167 IO115PB2F10 (io), 168 IO114NB2F10 (io), 169 IO114PB2F10 (io), 172 IO113NB2F10 (io), 173 IO113PB2F10 (io), 174 IO112NB2F10 (io), 175 IO112PB2F10 (io), 178 IO111NB2F10 (io), 179 IO111PB2F10 (io), 180 IO110NB2F10 (io), 181 IO110PB2F10 (io), 184 IO107NB2F10 (io), 185 IO107PB2F10 (io), 186 IO89PB2F8 (io), 187 IO87NB2F8 (io), 188 IO87PB2F8 (io), 197 IO74NB1F6 (io), 198 IO74PB1F6 (io), 199 IO70NB1F6 (io), 202 IO73NB1F6 (io), 203 IO73PB1F6 (io), 204 IO71NB1F6 (io), 205 IO71PB1F6 (io), 208 IO69NB1F6 (io), 209 IO69PB1F6 (io), 210 IO65NB1F6 (io), 211 IO65PB1F6 (io), 216 IO44NB1F4/HCLKDN (io), 217 IO44PB1F4/HCLKDP (io), 220 IO43NB1F4/HCLKCN (io), 221 IO43PB1F4/HCLKCP (io), 228 IO42NB0F3/HCLKBN (io), 229 IO42PB0F3/HCLKBP (io), 232 IO41NB0F3/HCLKAN (io), 233 IO41PB0F3/HCLKAP (io), 234 IO37NB0F3 (io), 235 IO37PB0F3 (io), 240 IO08NB0F0 (io), 241 IO08PB0F0 (io), 242 IO05NB0F0 (io), 243 IO05PB0F0 (io), 246 IO04NB0F0 (io), 247 IO04PB0F0 (io), 248 IO01NB0F0 (io), 249 IO01PB0F0 (io)
part B pins: 2 VCCDA (power), 3 VCCA (power), 4 VCCA (power), 10 VCCIB7 (power), 16 VCCIB7 (power), 22 VCCA (power), 28 VCCIB7 (power), 32 VCCDA (power), 36 VCCIB6 (power), 42 VCCA (power), 48 VCCIB6 (power), 54 VCCIB6 (power), 61 VCCA (power), 63 VCCA (power), 66 VCCDA (power), 67 VCCDA (power), 72 VCCIB5 (power), 78 VCCIB5 (power), 84 VCCA (power), 86 VCCDA (power), 87 VCCDA (power), 90 VCCIB5 (power), 94 VCCDA (power), 95 VCCDA (power), 96 VCCDA (power), 98 PRD (out), 99 PRC (out), 102 VCCIB4 (power), 106 VCCDA (power), 107 VCCDA (power), 108 VCCA (power), 114 VCCIB4 (power), 120 VCCIB4 (power), 126 VCCDA (power), 127 VCCA (power), 130 VCCDA (power), 131 VCCA (power), 138 VCCIB3 (power), 144 VCCIB3 (power), 150 VCCA (power), 156 VCCIB3 (power), 160 VCCDA (power), 164 VCCIB2 (power), 170 VCCA (power), 176 VCCIB2 (power), 182 VCCIB2 (power), 189 VCCA (power), 191 VCCA (power), 194 VCCDA (power), 195 VPUMP (power), 196 VCCDA (power), 200 VCCIB1 (power), 206 VCCIB1 (power), 212 VCCA (power), 214 VCCDA (power), 215 VCCDA (power), 218 VCCIB1 (power), 222 VCCDA (power), 223 VCCDA (power), 224 VCCDA (power), 226 PRB (out), 227 PRA (out), 230 VCCIB0 (power), 236 VCCDA (power), 237 VCCDA (power), 238 VCCA (power), 244 VCCIB0 (power), 250 TDO (hiz), 251 VCCDA (power), 252 TDI (in), 253 TCK (in), 254 TMS (in), 255 ~{TRST} (in)
part C pins: 1 GND (power), 5 GND (power), 11 GND (power), 17 GND (power), 23 GND (power), 29 GND (power), 33 GND (power), 37 GND (power), 43 GND (power), 49 GND (power), 55 GND (power), 62 GND (power), 64 GND (power), 65 GND (power), 73 GND (power), 79 GND (power), 85 GND (power), 91 GND (power), 97 GND (power), 103 GND (power), 109 GND (power), 115 GND (power), 121 GND (power), 128 GND (power), 129 GND (power), 132 GND (power), 139 GND (power), 145 GND (power), 151 GND (power), 157 GND (power), 161 GND (power), 165 GND (power), 171 GND (power), 177 GND (power), 183 GND (power), 190 GND (power), 192 GND (power), 193 GND (power), 201 GND (power), 207 GND (power), 213 GND (power), 219 GND (power), 225 GND (power), 231 GND (power), 239 GND (power), 245 GND (power), 256 GND (power)
part A text: Bank 0; Bank 1; Bank 7; Bank 2; Bank 6; Bank 3; Bank 5; Bank 4

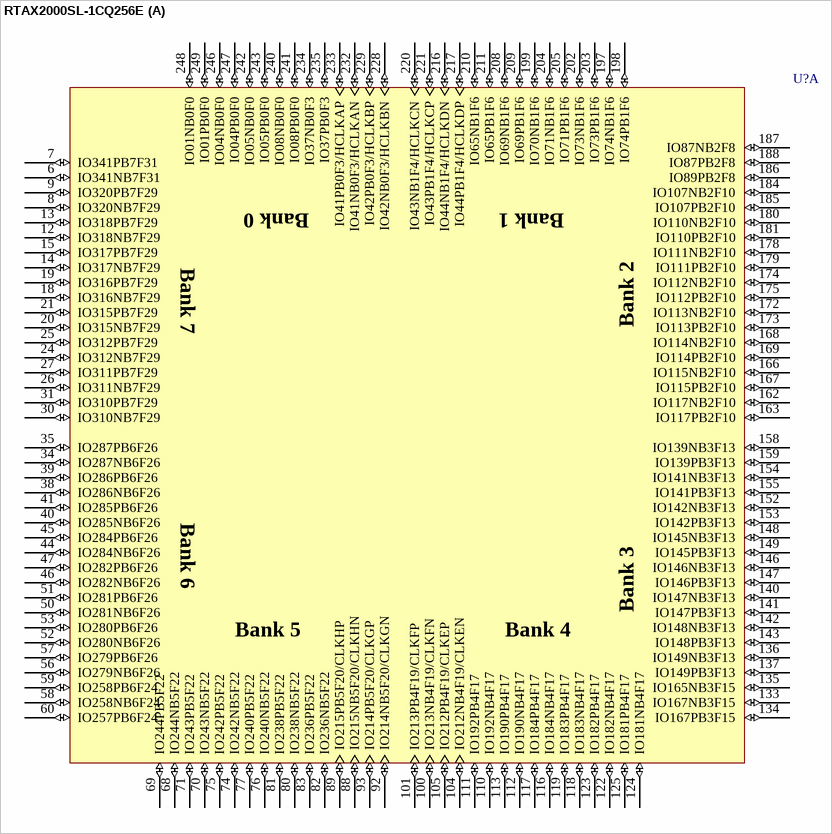
[diagram p222: symbol RTAX2000SL-1CQ256E]

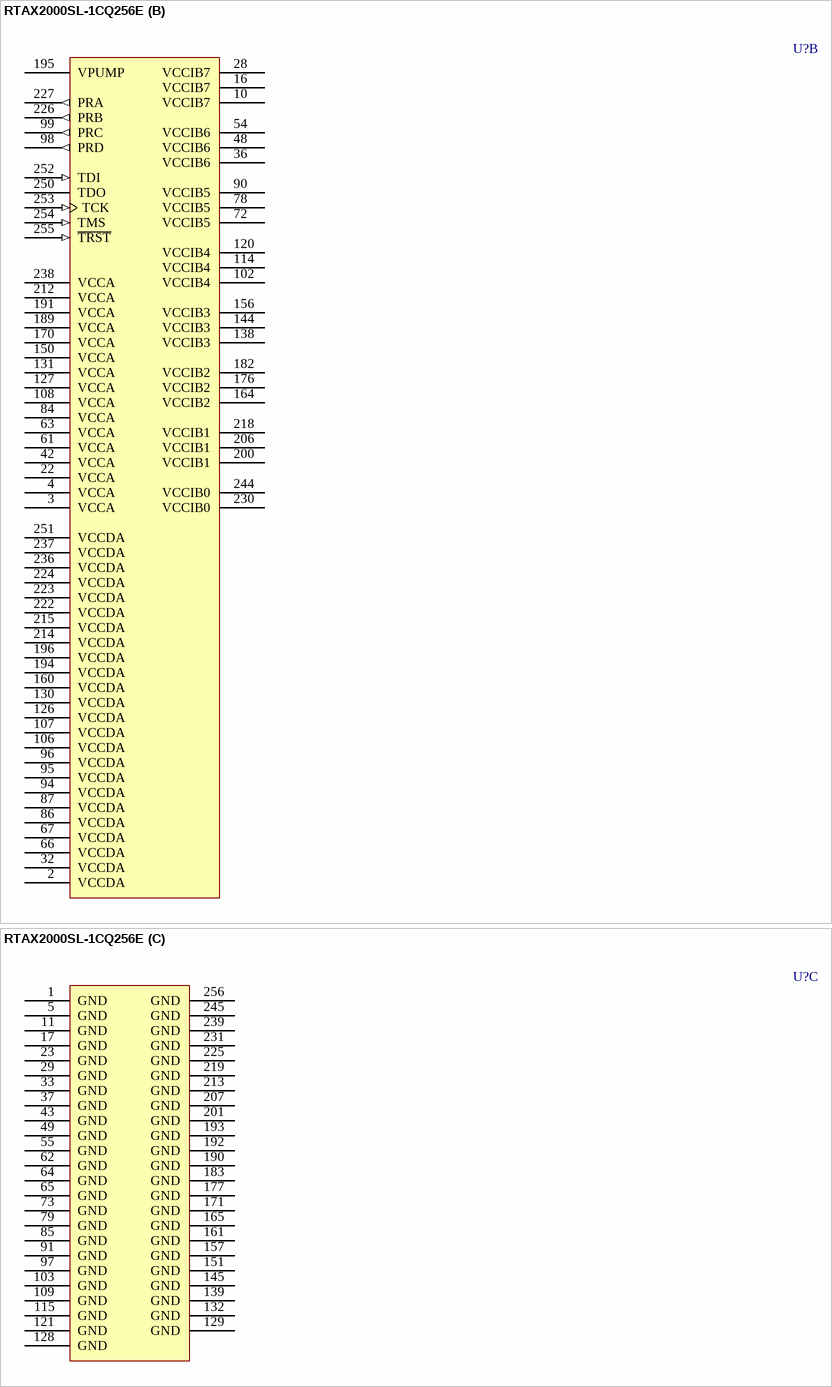
[diagram p223: symbol RTAX2000SL-1CQ256E]

## RTAX2000SL-1CQ256E
designator U?
RTAX-SL RadTolerant FPGA, 2 Million Equivalent System Gates, Low-Power, 256-Pin CQFP, Speed Grade 1, E-Flow (Space Level Flow); Published: 11-Dec-2009; DatasheetVersion: v5.4, May-2009; PackageVersion: ver11.2, Nov-2009; PackageReference: CQ256; Publisher: Altium Limited; PackageDescription: 256-Pin Ceramic Quad Flat Pack (CQFP); Code_JEDEC: MO-134-AB; ComponentLink1Description: RTAX-S/SL RadTolerant Datasheet; ComponentLink1URL: http://www.actel.com/documents/RTAXS_DS.pdf; ComponentLink2Description: Package Mechanical Drawings; ComponentLink2URL: http://www.actel.com/documents/PckgMechDrwngs.pdf; ComponentLink3Description: RTAX-S/SL RadTolerant Documents; ComponentLink3URL: http://www.actel.com/products/milaero/rtaxs/docs.aspx; ComponentLink4Description: Actel.com Home; ComponentLink4URL: http://www.actel.com/
footprint CQ256_N (CQFP, 256-Leads, Body 36x36mm; Pitch 0.5mm, Gullwing Leadform, IPC Medium Density)
footprint CQ256_L (CQFP, 256-Leads, Body 36x36mm; Pitch 0.5mm, Gullwing Leadform, IPC High Density)
footprint CQ256_M (CQFP, 256-Leads, Body 36x36mm; Pitch 0.5mm, Gullwing Leadform, IPC Low Density)
part A pins: 6 IO341NB7F31 (io), 7 IO341PB7F31 (io), 8 IO320NB7F29 (io), 9 IO320PB7F29 (io), 12 IO318NB7F29 (io), 13 IO318PB7F29 (io), 14 IO317NB7F29 (io), 15 IO317PB7F29 (io), 18 IO316NB7F29 (io), 19 IO316PB7F29 (io), 20 IO315NB7F29 (io), 21 IO315PB7F29 (io), 24 IO312NB7F29 (io), 25 IO312PB7F29 (io), 26 IO311NB7F29 (io), 27 IO311PB7F29 (io), 30 IO310NB7F29 (io), 31 IO310PB7F29 (io), 34 IO287NB6F26 (io), 35 IO287PB6F26 (io), 38 IO286NB6F26 (io), 39 IO286PB6F26 (io), 40 IO285NB6F26 (io), 41 IO285PB6F26 (io), 44 IO284NB6F26 (io), 45 IO284PB6F26 (io), 46 IO282NB6F26 (io), 47 IO282PB6F26 (io), 50 IO281NB6F26 (io), 51 IO281PB6F26 (io), 52 IO280NB6F26 (io), 53 IO280PB6F26 (io), 56 IO279NB6F26 (io), 57 IO279PB6F26 (io), 58 IO258NB6F24 (io), 59 IO258PB6F24 (io), 60 IO257PB6F24 (io), 68 IO244NB5F22 (io), 69 IO244PB5F22 (io), 70 IO243NB5F22 (io), 71 IO243PB5F22 (io), 74 IO242NB5F22 (io), 75 IO242PB5F22 (io), 76 IO240NB5F22 (io), 77 IO240PB5F22 (io), 80 IO238NB5F22 (io), 81 IO238PB5F22 (io), 82 IO236NB5F22 (io), 83 IO236PB5F22 (io), 88 IO215NB5F20/CLKHN (io), 89 IO215PB5F20/CLKHP (io), 92 IO214NB5F20/CLKGN (io), 93 IO214PB5F20/CLKGP (io), 100 IO213NB4F19/CLKFN (io), 101 IO213PB4F19/CLKFP (io), 104 IO212NB4F19/CLKEN (io), 105 IO212PB4F19/CLKEP (io), 110 IO192NB4F17 (io), 111 IO192PB4F17 (io), 112 IO190NB4F17 (io), 113 IO190PB4F17 (io), 116 IO184NB4F17 (io), 117 IO184PB4F17 (io), 118 IO183NB4F17 (io), 119 IO183PB4F17 (io), 122 IO182NB4F17 (io), 123 IO182PB4F17 (io), 124 IO181NB4F17 (io), 125 IO181PB4F17 (io), 133 IO167NB3F15 (io), 134 IO167PB3F15 (io), 135 IO165NB3F15 (io), 136 IO149NB3F13 (io), 137 IO149PB3F13 (io), 140 IO147NB3F13 (io), 141 IO147PB3F13 (io), 142 IO148NB3F13 (io), 143 IO148PB3F13 (io), 146 IO146NB3F13 (io), 147 IO146PB3F13 (io), 148 IO145NB3F13 (io), 149 IO145PB3F13 (io), 152 IO142NB3F13 (io), 153 IO142PB3F13 (io), 154 IO141NB3F13 (io), 155 IO141PB3F13 (io), 158 IO139NB3F13 (io), 159 IO139PB3F13 (io), 162 IO117NB2F10 (io), 163 IO117PB2F10 (io), 166 IO115NB2F10 (io), 167 IO115PB2F10 (io), 168 IO114NB2F10 (io), 169 IO114PB2F10 (io), 172 IO113NB2F10 (io), 173 IO113PB2F10 (io), 174 IO112NB2F10 (io), 175 IO112PB2F10 (io), 178 IO111NB2F10 (io), 179 IO111PB2F10 (io), 180 IO110NB2F10 (io), 181 IO110PB2F10 (io), 184 IO107NB2F10 (io), 185 IO107PB2F10 (io), 186 IO89PB2F8 (io), 187 IO87NB2F8 (io), 188 IO87PB2F8 (io), 197 IO74NB1F6 (io), 198 IO74PB1F6 (io), 199 IO70NB1F6 (io), 202 IO73NB1F6 (io), 203 IO73PB1F6 (io), 204 IO71NB1F6 (io), 205 IO71PB1F6 (io), 208 IO69NB1F6 (io), 209 IO69PB1F6 (io), 210 IO65NB1F6 (io), 211 IO65PB1F6 (io), 216 IO44NB1F4/HCLKDN (io), 217 IO44PB1F4/HCLKDP (io), 220 IO43NB1F4/HCLKCN (io), 221 IO43PB1F4/HCLKCP (io), 228 IO42NB0F3/HCLKBN (io), 229 IO42PB0F3/HCLKBP (io), 232 IO41NB0F3/HCLKAN (io), 233 IO41PB0F3/HCLKAP (io), 234 IO37NB0F3 (io), 235 IO37PB0F3 (io), 240 IO08NB0F0 (io), 241 IO08PB0F0 (io), 242 IO05NB0F0 (io), 243 IO05PB0F0 (io), 246 IO04NB0F0 (io), 247 IO04PB0F0 (io), 248 IO01NB0F0 (io), 249 IO01PB0F0 (io)
part B pins: 2 VCCDA (power), 3 VCCA (power), 4 VCCA (power), 10 VCCIB7 (power), 16 VCCIB7 (power), 22 VCCA (power), 28 VCCIB7 (power), 32 VCCDA (power), 36 VCCIB6 (power), 42 VCCA (power), 48 VCCIB6 (power), 54 VCCIB6 (power), 61 VCCA (power), 63 VCCA (power), 66 VCCDA (power), 67 VCCDA (power), 72 VCCIB5 (power), 78 VCCIB5 (power), 84 VCCA (power), 86 VCCDA (power), 87 VCCDA (power), 90 VCCIB5 (power), 94 VCCDA (power), 95 VCCDA (power), 96 VCCDA (power), 98 PRD (out), 99 PRC (out), 102 VCCIB4 (power), 106 VCCDA (power), 107 VCCDA (power), 108 VCCA (power), 114 VCCIB4 (power), 120 VCCIB4 (power), 126 VCCDA (power), 127 VCCA (power), 130 VCCDA (power), 131 VCCA (power), 138 VCCIB3 (power), 144 VCCIB3 (power), 150 VCCA (power), 156 VCCIB3 (power), 160 VCCDA (power), 164 VCCIB2 (power), 170 VCCA (power), 176 VCCIB2 (power), 182 VCCIB2 (power), 189 VCCA (power), 191 VCCA (power), 194 VCCDA (power), 195 VPUMP (power), 196 VCCDA (power), 200 VCCIB1 (power), 206 VCCIB1 (power), 212 VCCA (power), 214 VCCDA (power), 215 VCCDA (power), 218 VCCIB1 (power), 222 VCCDA (power), 223 VCCDA (power), 224 VCCDA (power), 226 PRB (out), 227 PRA (out), 230 VCCIB0 (power), 236 VCCDA (power), 237 VCCDA (power), 238 VCCA (power), 244 VCCIB0 (power), 250 TDO (hiz), 251 VCCDA (power), 252 TDI (in), 253 TCK (in), 254 TMS (in), 255 ~{TRST} (in)
part C pins: 1 GND (power), 5 GND (power), 11 GND (power), 17 GND (power), 23 GND (power), 29 GND (power), 33 GND (power), 37 GND (power), 43 GND (power), 49 GND (power), 55 GND (power), 62 GND (power), 64 GND (power), 65 GND (power), 73 GND (power), 79 GND (power), 85 GND (power), 91 GND (power), 97 GND (power), 103 GND (power), 109 GND (power), 115 GND (power), 121 GND (power), 128 GND (power), 129 GND (power), 132 GND (power), 139 GND (power), 145 GND (power), 151 GND (power), 157 GND (power), 161 GND (power), 165 GND (power), 171 GND (power), 177 GND (power), 183 GND (power), 190 GND (power), 192 GND (power), 193 GND (power), 201 GND (power), 207 GND (power), 213 GND (power), 219 GND (power), 225 GND (power), 231 GND (power), 239 GND (power), 245 GND (power), 256 GND (power)
part A text: Bank 0; Bank 1; Bank 7; Bank 2; Bank 6; Bank 3; Bank 5; Bank 4

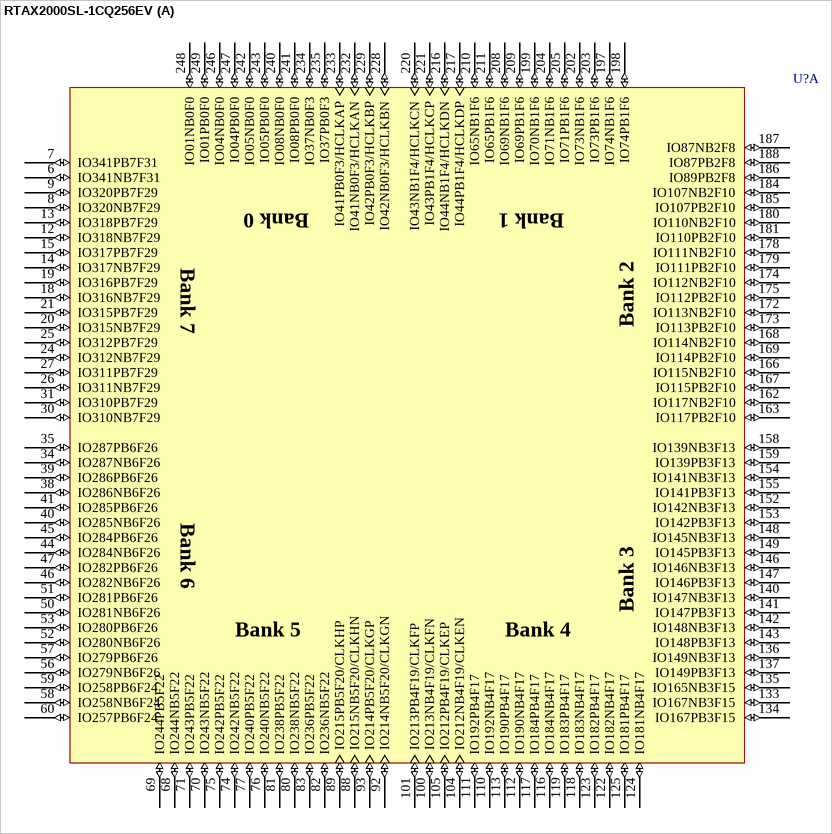
[diagram p224: symbol RTAX2000SL-1CQ256EV]

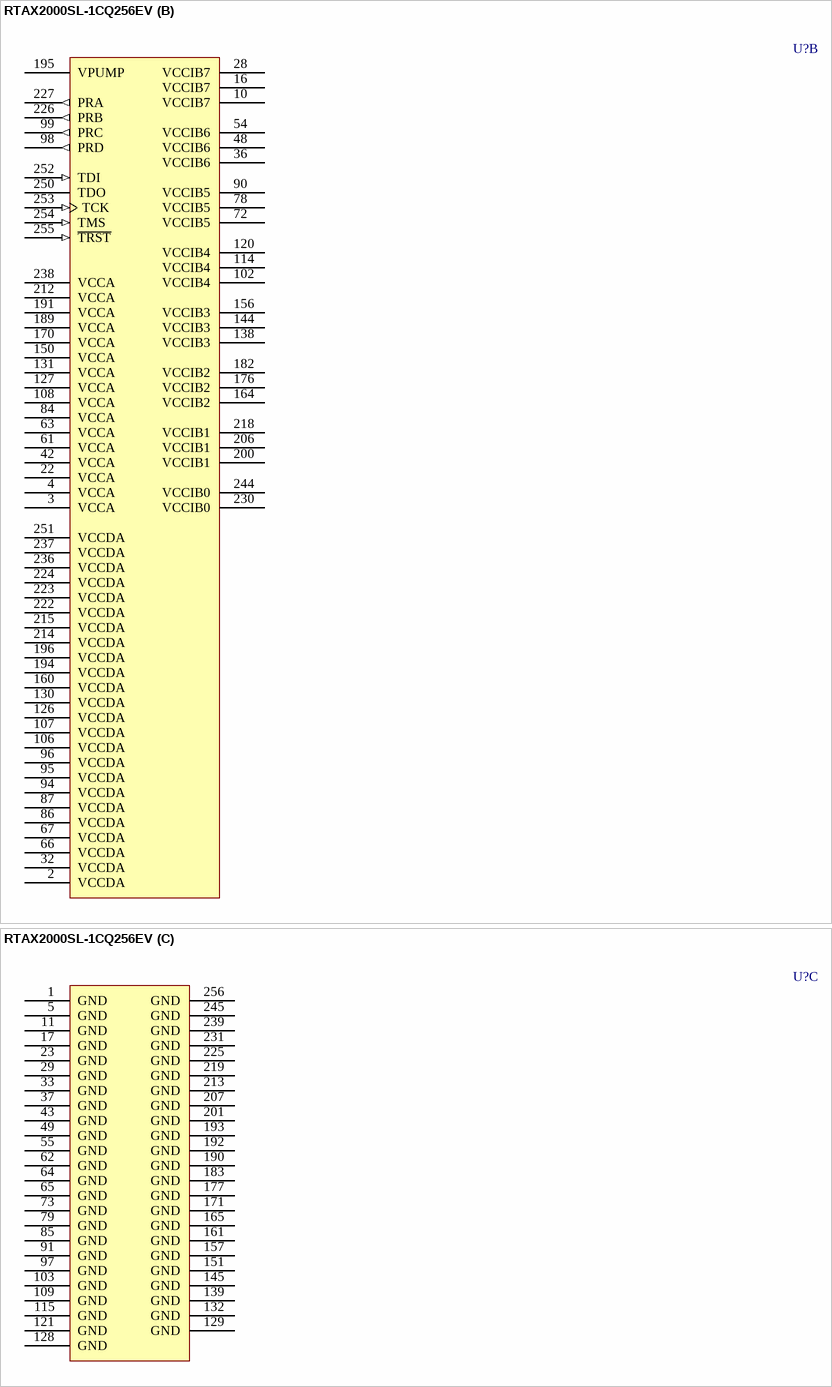
[diagram p225: symbol RTAX2000SL-1CQ256EV]

## RTAX2000SL-1CQ256EV
designator U?
RTAX-SL RadTolerant FPGA, 2 Million Equivalent System Gates, Low-Power, 256-Pin CQFP, Speed Grade 1, Class V; Published: 11-Dec-2009; DatasheetVersion: v5.4, May-2009; PackageVersion: ver11.2, Nov-2009; PackageReference: CQ256; Publisher: Altium Limited; PackageDescription: 256-Pin Ceramic Quad Flat Pack (CQFP); Code_JEDEC: MO-134-AB; ComponentLink1Description: RTAX-S/SL RadTolerant Datasheet; ComponentLink1URL: http://www.actel.com/documents/RTAXS_DS.pdf; ComponentLink2Description: Package Mechanical Drawings; ComponentLink2URL: http://www.actel.com/documents/PckgMechDrwngs.pdf; ComponentLink3Description: RTAX-S/SL RadTolerant Documents; ComponentLink3URL: http://www.actel.com/products/milaero/rtaxs/docs.aspx; ComponentLink4Description: Actel.com Home; ComponentLink4URL: http://www.actel.com/
footprint CQ256_N (CQFP, 256-Leads, Body 36x36mm; Pitch 0.5mm, Gullwing Leadform, IPC Medium Density)
footprint CQ256_L (CQFP, 256-Leads, Body 36x36mm; Pitch 0.5mm, Gullwing Leadform, IPC High Density)
footprint CQ256_M (CQFP, 256-Leads, Body 36x36mm; Pitch 0.5mm, Gullwing Leadform, IPC Low Density)
part A pins: 6 IO341NB7F31 (io), 7 IO341PB7F31 (io), 8 IO320NB7F29 (io), 9 IO320PB7F29 (io), 12 IO318NB7F29 (io), 13 IO318PB7F29 (io), 14 IO317NB7F29 (io), 15 IO317PB7F29 (io), 18 IO316NB7F29 (io), 19 IO316PB7F29 (io), 20 IO315NB7F29 (io), 21 IO315PB7F29 (io), 24 IO312NB7F29 (io), 25 IO312PB7F29 (io), 26 IO311NB7F29 (io), 27 IO311PB7F29 (io), 30 IO310NB7F29 (io), 31 IO310PB7F29 (io), 34 IO287NB6F26 (io), 35 IO287PB6F26 (io), 38 IO286NB6F26 (io), 39 IO286PB6F26 (io), 40 IO285NB6F26 (io), 41 IO285PB6F26 (io), 44 IO284NB6F26 (io), 45 IO284PB6F26 (io), 46 IO282NB6F26 (io), 47 IO282PB6F26 (io), 50 IO281NB6F26 (io), 51 IO281PB6F26 (io), 52 IO280NB6F26 (io), 53 IO280PB6F26 (io), 56 IO279NB6F26 (io), 57 IO279PB6F26 (io), 58 IO258NB6F24 (io), 59 IO258PB6F24 (io), 60 IO257PB6F24 (io), 68 IO244NB5F22 (io), 69 IO244PB5F22 (io), 70 IO243NB5F22 (io), 71 IO243PB5F22 (io), 74 IO242NB5F22 (io), 75 IO242PB5F22 (io), 76 IO240NB5F22 (io), 77 IO240PB5F22 (io), 80 IO238NB5F22 (io), 81 IO238PB5F22 (io), 82 IO236NB5F22 (io), 83 IO236PB5F22 (io), 88 IO215NB5F20/CLKHN (io), 89 IO215PB5F20/CLKHP (io), 92 IO214NB5F20/CLKGN (io), 93 IO214PB5F20/CLKGP (io), 100 IO213NB4F19/CLKFN (io), 101 IO213PB4F19/CLKFP (io), 104 IO212NB4F19/CLKEN (io), 105 IO212PB4F19/CLKEP (io), 110 IO192NB4F17 (io), 111 IO192PB4F17 (io), 112 IO190NB4F17 (io), 113 IO190PB4F17 (io), 116 IO184NB4F17 (io), 117 IO184PB4F17 (io), 118 IO183NB4F17 (io), 119 IO183PB4F17 (io), 122 IO182NB4F17 (io), 123 IO182PB4F17 (io), 124 IO181NB4F17 (io), 125 IO181PB4F17 (io), 133 IO167NB3F15 (io), 134 IO167PB3F15 (io), 135 IO165NB3F15 (io), 136 IO149NB3F13 (io), 137 IO149PB3F13 (io), 140 IO147NB3F13 (io), 141 IO147PB3F13 (io), 142 IO148NB3F13 (io), 143 IO148PB3F13 (io), 146 IO146NB3F13 (io), 147 IO146PB3F13 (io), 148 IO145NB3F13 (io), 149 IO145PB3F13 (io), 152 IO142NB3F13 (io), 153 IO142PB3F13 (io), 154 IO141NB3F13 (io), 155 IO141PB3F13 (io), 158 IO139NB3F13 (io), 159 IO139PB3F13 (io), 162 IO117NB2F10 (io), 163 IO117PB2F10 (io), 166 IO115NB2F10 (io), 167 IO115PB2F10 (io), 168 IO114NB2F10 (io), 169 IO114PB2F10 (io), 172 IO113NB2F10 (io), 173 IO113PB2F10 (io), 174 IO112NB2F10 (io), 175 IO112PB2F10 (io), 178 IO111NB2F10 (io), 179 IO111PB2F10 (io), 180 IO110NB2F10 (io), 181 IO110PB2F10 (io), 184 IO107NB2F10 (io), 185 IO107PB2F10 (io), 186 IO89PB2F8 (io), 187 IO87NB2F8 (io), 188 IO87PB2F8 (io), 197 IO74NB1F6 (io), 198 IO74PB1F6 (io), 199 IO70NB1F6 (io), 202 IO73NB1F6 (io), 203 IO73PB1F6 (io), 204 IO71NB1F6 (io), 205 IO71PB1F6 (io), 208 IO69NB1F6 (io), 209 IO69PB1F6 (io), 210 IO65NB1F6 (io), 211 IO65PB1F6 (io), 216 IO44NB1F4/HCLKDN (io), 217 IO44PB1F4/HCLKDP (io), 220 IO43NB1F4/HCLKCN (io), 221 IO43PB1F4/HCLKCP (io), 228 IO42NB0F3/HCLKBN (io), 229 IO42PB0F3/HCLKBP (io), 232 IO41NB0F3/HCLKAN (io), 233 IO41PB0F3/HCLKAP (io), 234 IO37NB0F3 (io), 235 IO37PB0F3 (io), 240 IO08NB0F0 (io), 241 IO08PB0F0 (io), 242 IO05NB0F0 (io), 243 IO05PB0F0 (io), 246 IO04NB0F0 (io), 247 IO04PB0F0 (io), 248 IO01NB0F0 (io), 249 IO01PB0F0 (io)
part B pins: 2 VCCDA (power), 3 VCCA (power), 4 VCCA (power), 10 VCCIB7 (power), 16 VCCIB7 (power), 22 VCCA (power), 28 VCCIB7 (power), 32 VCCDA (power), 36 VCCIB6 (power), 42 VCCA (power), 48 VCCIB6 (power), 54 VCCIB6 (power), 61 VCCA (power), 63 VCCA (power), 66 VCCDA (power), 67 VCCDA (power), 72 VCCIB5 (power), 78 VCCIB5 (power), 84 VCCA (power), 86 VCCDA (power), 87 VCCDA (power), 90 VCCIB5 (power), 94 VCCDA (power), 95 VCCDA (power), 96 VCCDA (power), 98 PRD (out), 99 PRC (out), 102 VCCIB4 (power), 106 VCCDA (power), 107 VCCDA (power), 108 VCCA (power), 114 VCCIB4 (power), 120 VCCIB4 (power), 126 VCCDA (power), 127 VCCA (power), 130 VCCDA (power), 131 VCCA (power), 138 VCCIB3 (power), 144 VCCIB3 (power), 150 VCCA (power), 156 VCCIB3 (power), 160 VCCDA (power), 164 VCCIB2 (power), 170 VCCA (power), 176 VCCIB2 (power), 182 VCCIB2 (power), 189 VCCA (power), 191 VCCA (power), 194 VCCDA (power), 195 VPUMP (power), 196 VCCDA (power), 200 VCCIB1 (power), 206 VCCIB1 (power), 212 VCCA (power), 214 VCCDA (power), 215 VCCDA (power), 218 VCCIB1 (power), 222 VCCDA (power), 223 VCCDA (power), 224 VCCDA (power), 226 PRB (out), 227 PRA (out), 230 VCCIB0 (power), 236 VCCDA (power), 237 VCCDA (power), 238 VCCA (power), 244 VCCIB0 (power), 250 TDO (hiz), 251 VCCDA (power), 252 TDI (in), 253 TCK (in), 254 TMS (in), 255 ~{TRST} (in)
part C pins: 1 GND (power), 5 GND (power), 11 GND (power), 17 GND (power), 23 GND (power), 29 GND (power), 33 GND (power), 37 GND (power), 43 GND (power), 49 GND (power), 55 GND (power), 62 GND (power), 64 GND (power), 65 GND (power), 73 GND (power), 79 GND (power), 85 GND (power), 91 GND (power), 97 GND (power), 103 GND (power), 109 GND (power), 115 GND (power), 121 GND (power), 128 GND (power), 129 GND (power), 132 GND (power), 139 GND (power), 145 GND (power), 151 GND (power), 157 GND (power), 161 GND (power), 165 GND (power), 171 GND (power), 177 GND (power), 183 GND (power), 190 GND (power), 192 GND (power), 193 GND (power), 201 GND (power), 207 GND (power), 213 GND (power), 219 GND (power), 225 GND (power), 231 GND (power), 239 GND (power), 245 GND (power), 256 GND (power)
part A text: Bank 0; Bank 1; Bank 7; Bank 2; Bank 6; Bank 3; Bank 5; Bank 4

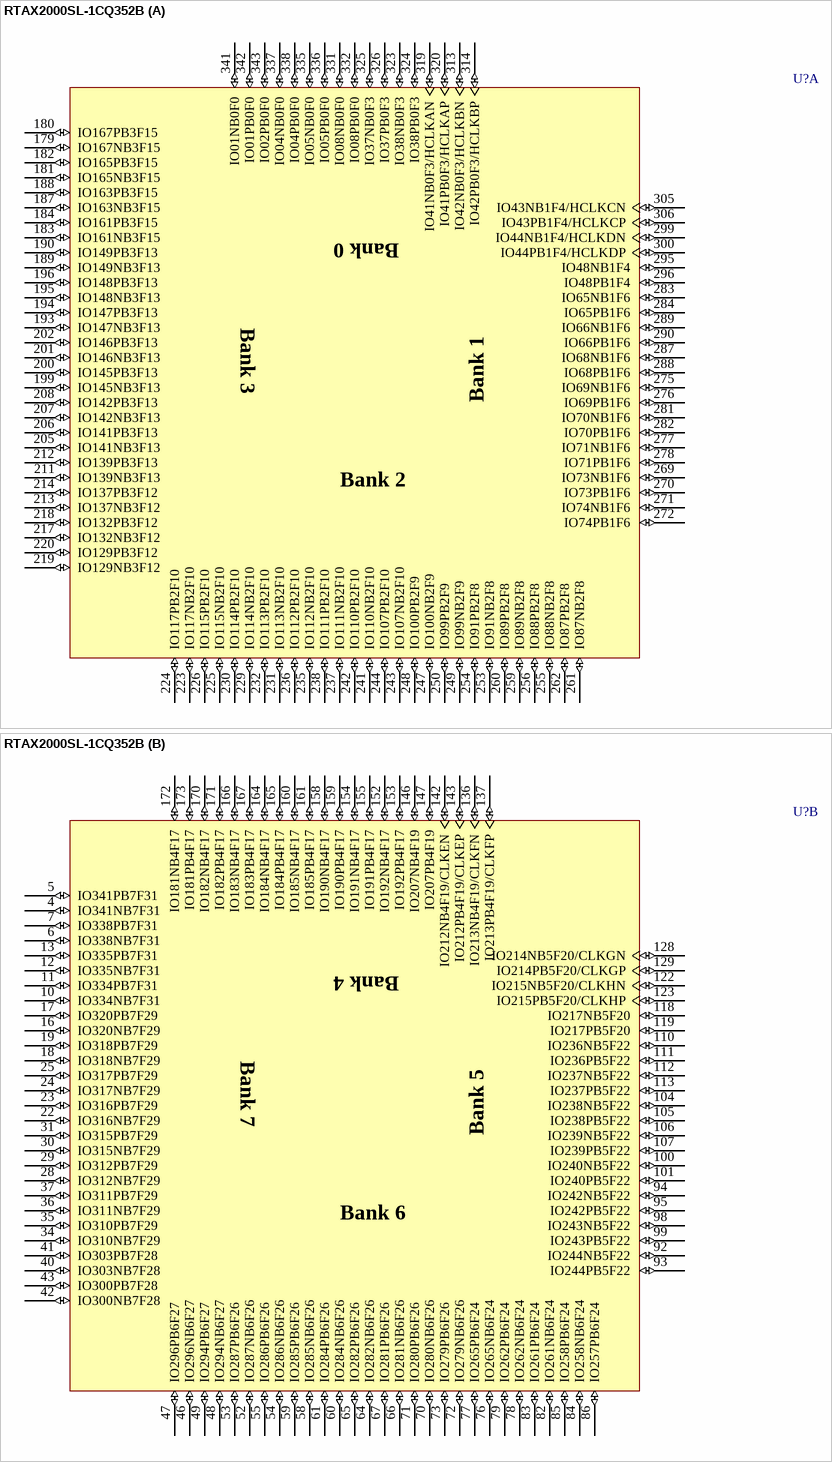
[diagram p226: symbol RTAX2000SL-1CQ352B]

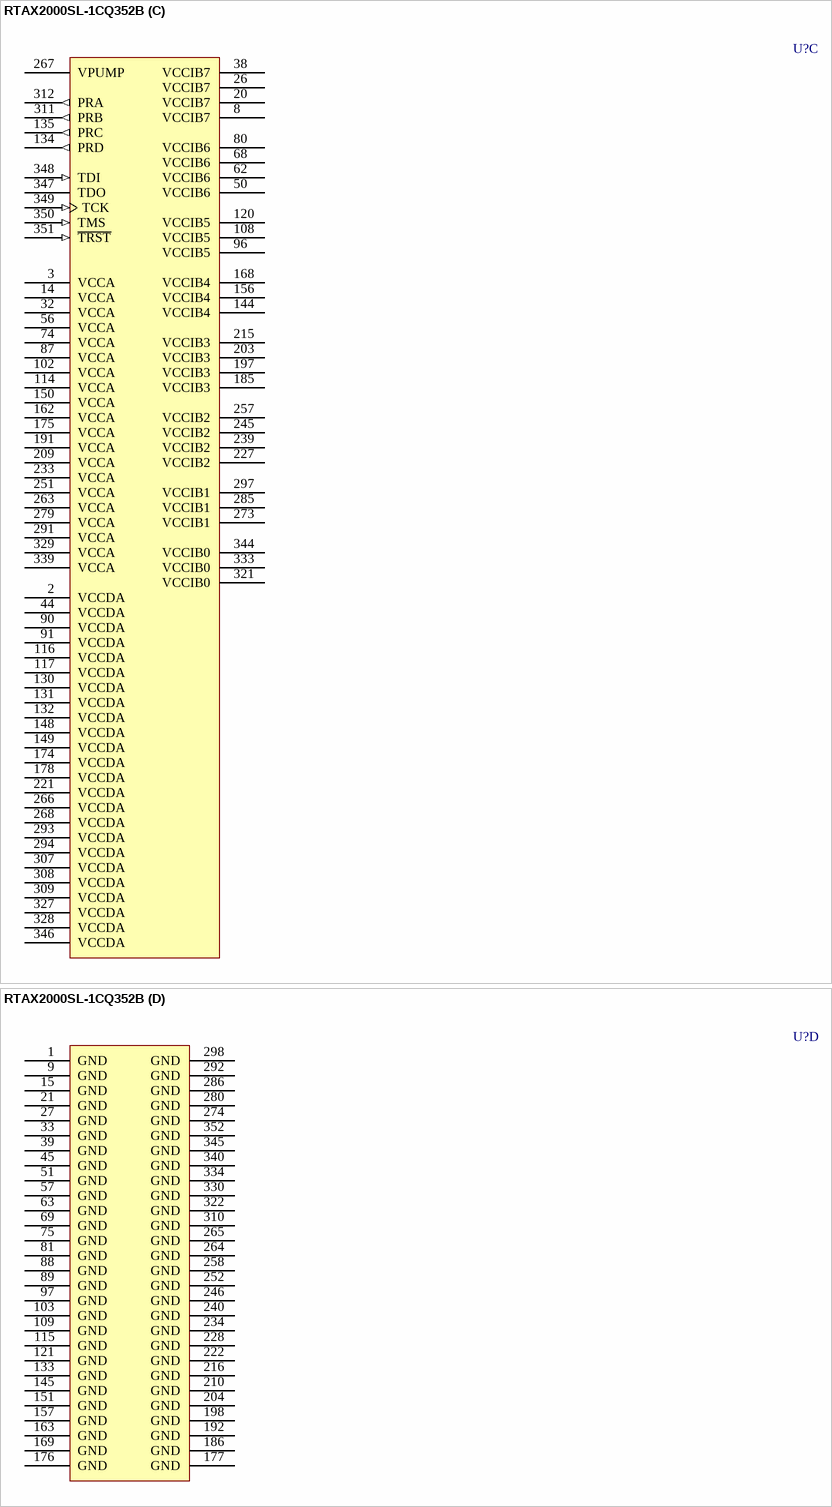
[diagram p227: symbol RTAX2000SL-1CQ352B]

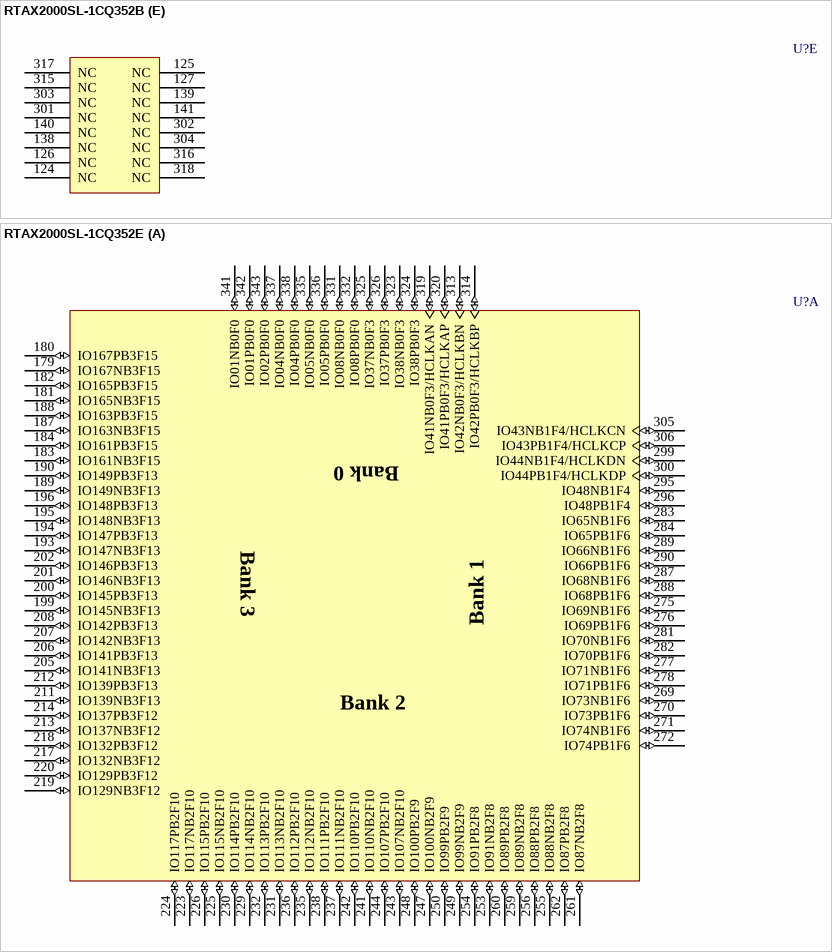
[diagram p228: symbols RTAX2000SL-1CQ352B to RTAX2000SL-1CQ352E]